# Altium schematic symbol library aiskylab-15Transformers.SchLib: 4 symbols
Pins are listed as number, name and electrical type; pins without a type are passive.

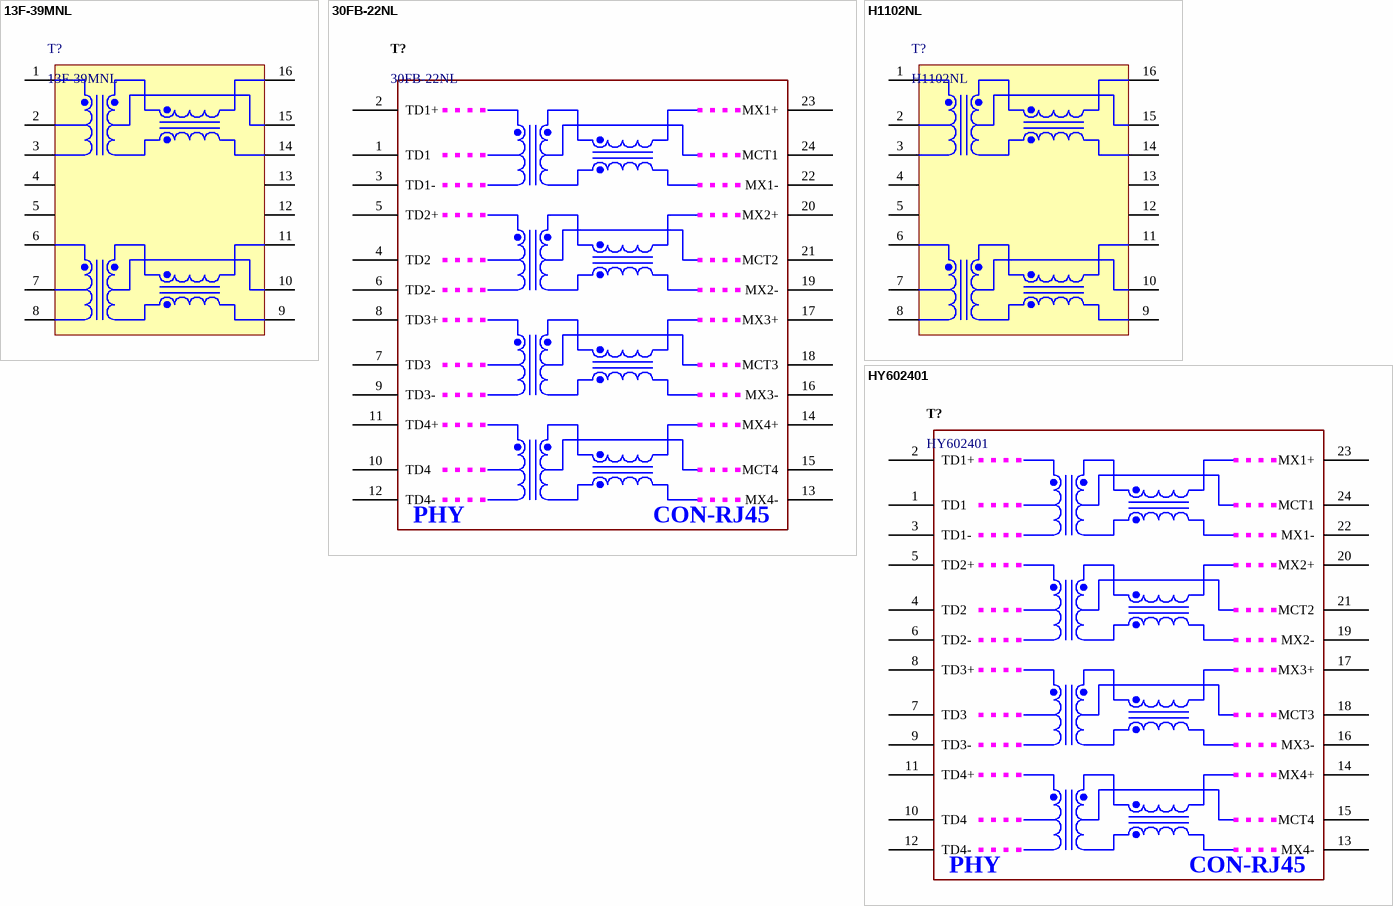
[diagram p0: symbols 13F-39MNL to HY602401]

## 13F-39MNL
designator T?
10/100 Base-T Single Port Surface Mount Magnetic with Turns Ratio; Manufacturer: 元册科技; Suplier: JLC; SuplierNumber: C115949; ComponentLink1Description: 供应商链接; ComponentLink1URL: https://item.szlcsc.com/117201.html
footprint SMD-16 (13F-39MNL,9.40x8.89)
pins: 1, 2, 3, 4, 5, 6, 7, 8, 9, 10, 11, 12, 13, 14, 15, 16

## 30FB-22NL
designator T?
10/100/1000 M网口变压器
footprint XFMR-SMD_30FB-22NL
pins: 1 TD1, 2 TD1+, 3 TD1-, 4 TD2, 5 TD2+, 6 TD2-, 7 TD3, 8 TD3+, 9 TD3-, 10 TD4, 11 TD4+, 12 TD4-, 13 MX4-, 14 MX4+, 15 MCT4, 16 MX3-, 17 MX3+, 18 MCT3, 19 MX2-, 20 MX2+, 21 MCT2, 22 MX1-, 23 MX1+, 24 MCT1
text: PHY; CON-RJ45

## H1102NL
designator T?
10/100 Base-T Single Port Surface Mount Magnetic with Turns Ratio, -40 to 85 degC, 16-Pin Module, RoHS, Tube; Manufacturer: Pulse; Unit Weight: 0.098767oz; Qualification: Commercial; Shielding: Unshielded; Isolation Voltage: 1.5kV; Frequency Range: 100kHzto100MHz; Width: 9.53m; Product Category: Audio&SignalTransformers; Number of Channels: Single; Package Reference: MODULE-16; Type: Module; Packaging: Tube; Application: 100Base-TX; Brand: Pulse; Datasheet URL: http://www.mouser.com/ds/2/336/H325-32121.pdf; Operating Temperature Range: 0Cto+70C; Termination Style: SMD/SMT; Product: LAN; Package Description: 16-Pin Surface Mount Device, Body 12.7 x 7.11 mm, Pitch 1.27 mm; Height: 6.09mm; Length: 12.7mm; Manufacturer URL: http://www.pulseelectronics.com/; Datasheet Version: Rev. H325.Q, 09/2009; RoHS: True
footprint PULS-MODULE-16_V (SOIC, 16-Leads, Body 12.7x7.11mm, Pitch 1.27mm)
pins: 1, 2, 3, 4, 5, 6, 7, 8, 9, 10, 11, 12, 13, 14, 15, 16

## HY602401
designator T?
1000M网络变压器
footprint HY_24
pins: 1 TD1, 2 TD1+, 3 TD1-, 4 TD2, 5 TD2+, 6 TD2-, 7 TD3, 8 TD3+, 9 TD3-, 10 TD4, 11 TD4+, 12 TD4-, 13 MX4-, 14 MX4+, 15 MCT4, 16 MX3-, 17 MX3+, 18 MCT3, 19 MX2-, 20 MX2+, 21 MCT2, 22 MX1-, 23 MX1+, 24 MCT1
text: PHY; CON-RJ45